# EAGLE library part PIC16F87 (library pic16f87-88-v0.1)
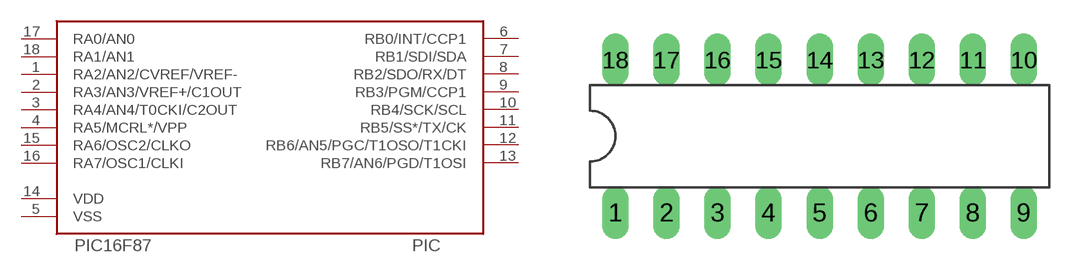
[diagram p1: symbol with the pads of DIL18; footprint DIL18]

Designator prefix PIC

## PIC16F87  [DIL18]
1  RA2/AN2/CVREF/VREF-
2  RA3/AN3/VREF+/C1OUT
3  RA4/AN4/T0CKI/C2OUT
4  RA5/MCRL*/VPP
5  VSS
6  RB0/INT/CCP1
7  RB1/SDI/SDA
8  RB2/SDO/RX/DT
9  RB3/PGM/CCP1
10  RB4/SCK/SCL
11  RB5/SS*/TX/CK
12  RB6/AN5/PGC/T1OSO/T1CKI
13  RB7/AN6/PGD/T1OSI
14  VDD
15  RA6/OSC2/CLKO
16  RA7/OSC1/CLKI
17  RA0/AN0
18  RA1/AN1

## Footprint DIL18 (pad centres in mm)
drill 0.8 long: 1 -15.24,0; 2 -12.7,0; 3 -10.16,0; 4 -7.62,0; 5 -5.08,0; 6 -2.54,0; 7 0,0; 8 2.54,0; 9 5.08,0; 10 5.08,7.62; 11 2.54,7.62; 12 0,7.62; 13 -2.54,7.62; 14 -5.08,7.62; 15 -7.62,7.62; 16 -10.16,7.62; 17 -12.7,7.62; 18 -15.24,7.62